# EAGLE library part LZP-LM4D00-0000 (library myLamp)
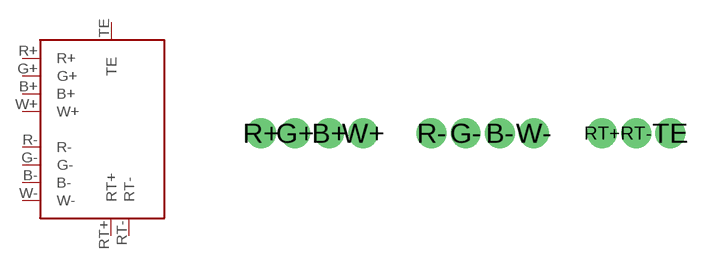
[diagram p0: symbol with the pads of LZP-LM4D00; footprint LZP-LM4D00]

Designator prefix U$

## LZP-LM4D00-0000  [LZP-LM4D00]
B+  B+
B-  B-
G+  G+
G-  G-
R+  R+
R-  R-
RT+  RT+
RT-  RT-
TE  TE
W+  W+
W-  W-

## Footprint LZP-LM4D00 (pad centres in mm)
drill 0.6: B+ -1.27,1.27; B- 5.08,1.27; G+ -2.54,1.27; G- 3.81,1.27; R+ -3.81,1.27; R- 2.54,1.27; RT+ 8.89,1.27; RT- 10.16,1.27; TE 11.43,1.27; W+ 0,1.27; W- 6.35,1.27